# Altium schematic symbol library RF_GPS.SchLib: 23 symbols
Pins are listed as number, name and electrical type; pins without a type are passive.

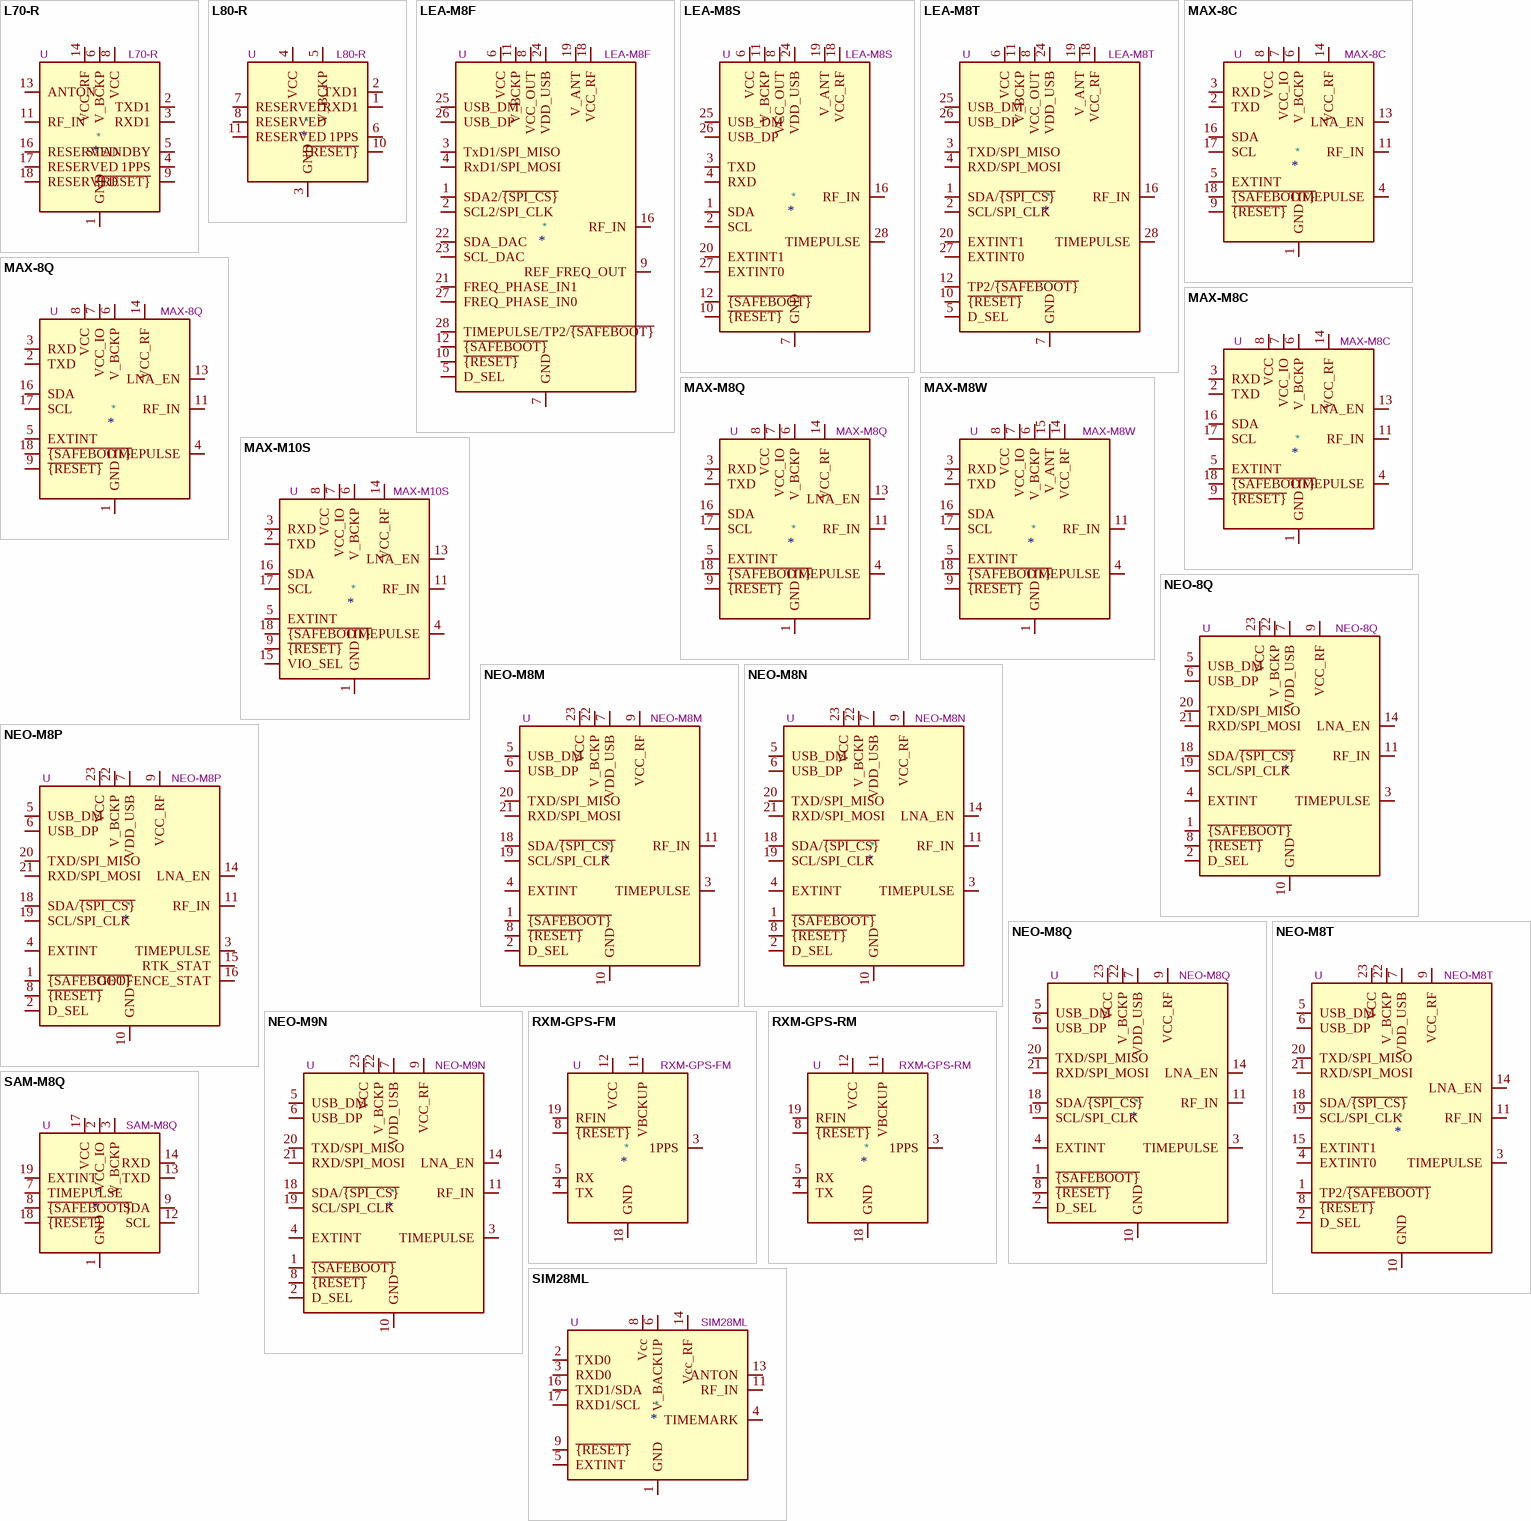
[diagram p0: symbols L70-R to SIM28ML]

## L70-R
designator *  value L70-R  Reference: U
ki_keywords: quectel GPS GNSS module; ki_description: Quectel GPS Module; ki_fp_filters: Quectel*L70*R*; Footprint: RF_GPS:Quectel_L70-R; Datasheet: https://www.quectel.com/product/gps-only-l70-r
pins: 1 GND, 2 TXD1, 3 RXD1, 4 1PPS, 5 STANDBY, 6 V_BCKP, 7 NC hidden, 8 VCC, 9 ~{{RESET}}, 10 GND hidden, 11 RF_IN, 12 GND hidden, 13 ANTON, 14 VCC_RF, 15 NC hidden, 16 RESERVED, 17 RESERVED, 18 RESERVED

## L80-R
designator *  value L80-R  Reference: U
ki_keywords: quectel GPS GNSS module; ki_description: Quectel GPS Module; ki_fp_filters: Quectel*L80*R*; Footprint: RF_GPS:Quectel_L80-R; Datasheet: https://www.quectel.com/UploadImage/Downlad/Quectel_L80-R_Hardware_Design_V1.2.pdf
pins: 1 RXD1, 2 TXD1, 3 GND, 4 VCC, 5 V_BCKP, 6 1PPS, 7 RESERVED, 8 RESERVED, 9 NC hidden, 10 ~{{RESET}}, 11 RESERVED, 12 GND hidden

## LEA-M8F
designator *  value LEA-M8F  Reference: U
ki_keywords: ublox GPS GNSS module; ki_description: GNSS Module LEA M8, VCC 3V to 3.6V; ki_fp_filters: ublox*LEA*; Footprint: RF_GPS:ublox_LEA; Datasheet: https://www.u-blox.com/sites/default/files/products/documents/LEA-M8F_DataSheet_%28UBX-14001772%29.pdf
pins: 1 SDA2/~{{SPI_CS}}, 2 SCL2/SPI_CLK, 3 TxD1/SPI_MISO, 4 RxD1/SPI_MOSI, 5 D_SEL, 6 VCC, 7 GND, 8 VCC_OUT, 9 REF_FREQ_OUT, 10 ~{{RESET}}, 11 V_BCKP, 12 ~{{SAFEBOOT}}, 13 GND hidden, 14 GND hidden, 15 GND hidden, 16 RF_IN, 17 GND hidden, 18 VCC_RF, 19 V_ANT, 20 RESERVED hidden, 21 FREQ_PHASE_IN1, 22 SDA_DAC, 23 SCL_DAC, 24 VDD_USB, 25 USB_DM, 26 USB_DP, 27 FREQ_PHASE_IN0, 28 TIMEPULSE/TP2/~{{SAFEBOOT}}

## LEA-M8S
designator *  value LEA-M8S  Reference: U
ki_keywords: ublox GPS GNSS module; ki_description: GNSS Module LEA M8, VCC 2.7V to 3.6V; ki_fp_filters: ublox*LEA*; Footprint: RF_GPS:ublox_LEA; Datasheet: https://www.u-blox.com/sites/default/files/LEA-M8S-FW3_DataSheet_%28UBX-16010205%29.pdf
pins: 1 SDA, 2 SCL, 3 TXD, 4 RXD, 5 RESERVED hidden, 6 VCC, 7 GND, 8 VCC_OUT, 9 RESERVED hidden, 10 ~{{RESET}}, 11 V_BCKP, 12 ~{{SAFEBOOT}}, 13 GND hidden, 14 GND hidden, 15 GND hidden, 16 RF_IN, 17 GND hidden, 18 VCC_RF, 19 V_ANT, 20 EXTINT1, 21 RESERVED hidden, 22 RESERVED hidden, 23 RESERVED hidden, 24 VDD_USB, 25 USB_DM, 26 USB_DP, 27 EXTINT0, 28 TIMEPULSE

## LEA-M8T
designator *  value LEA-M8T  Reference: U
ki_keywords: ublox GPS GNSS module; ki_description: GNSS Module LEA M8, VCC 2.7V to 3.6V; ki_fp_filters: ublox*LEA*; Footprint: RF_GPS:ublox_LEA; Datasheet: https://content.u-blox.com/sites/default/files/documents/NEO-LEA-M8T-FW3_DataSheet_UBX-15025193.pdf
pins: 1 SDA/~{{SPI_CS}}, 2 SCL/SPI_CLK, 3 TXD/SPI_MISO, 4 RXD/SPI_MOSI, 5 D_SEL, 6 VCC, 7 GND, 8 VCC_OUT, 9 RESERVED hidden, 10 ~{{RESET}}, 11 V_BCKP, 12 TP2/~{{SAFEBOOT}}, 13 GND hidden, 14 GND hidden, 15 GND hidden, 16 RF_IN, 17 GND hidden, 18 VCC_RF, 19 V_ANT, 20 EXTINT1, 21 RESERVED hidden, 22 RESERVED hidden, 23 RESERVED hidden, 24 VDD_USB, 25 USB_DM, 26 USB_DP, 27 EXTINT0, 28 TIMEPULSE

## MAX-8C
designator *  value MAX-8C  Reference: U
ki_keywords: ublox GPS GNSS module; ki_description: GNSS Module MAX M8, VCC 1.65V to 3.6V; ki_fp_filters: ublox*MAX*; Footprint: RF_GPS:ublox_MAX; Datasheet: https://www.u-blox.com/sites/default/files/MAX-8_DataSheet_%28UBX-16000093%29.pdf
pins: 1 GND, 2 TXD, 3 RXD, 4 TIMEPULSE, 5 EXTINT, 6 V_BCKP, 7 VCC_IO, 8 VCC, 9 ~{{RESET}}, 10 GND hidden, 11 RF_IN, 12 GND hidden, 13 LNA_EN, 14 VCC_RF, 15 Reserved hidden, 16 SDA, 17 SCL, 18 ~{{SAFEBOOT}}

## MAX-8Q
designator *  value MAX-8Q  Reference: U
ki_keywords: ublox GPS GNSS module; ki_description: GNSS Module M8, VCC 2.7V to 3.6V; ki_fp_filters: ublox*MAX*; Footprint: RF_GPS:ublox_MAX; Datasheet: https://www.u-blox.com/sites/default/files/MAX-8_DataSheet_%28UBX-16000093%29.pdf
pins: 1 GND, 2 TXD, 3 RXD, 4 TIMEPULSE, 5 EXTINT, 6 V_BCKP, 7 VCC_IO, 8 VCC, 9 ~{{RESET}}, 10 GND hidden, 11 RF_IN, 12 GND hidden, 13 LNA_EN, 14 VCC_RF, 15 Reserved hidden, 16 SDA, 17 SCL, 18 ~{{SAFEBOOT}}

## MAX-M8C
designator *  value MAX-M8C  Reference: U
ki_keywords: ublox GPS GNSS module; ki_description: GNSS Module MAX M8, VCC 1.65V to 3.6V; ki_fp_filters: ublox*MAX*; Footprint: RF_GPS:ublox_MAX; Datasheet: https://www.u-blox.com/sites/default/files/MAX-M8-FW3_DataSheet_%28UBX-15031506%29.pdf
pins: 1 GND, 2 TXD, 3 RXD, 4 TIMEPULSE, 5 EXTINT, 6 V_BCKP, 7 VCC_IO, 8 VCC, 9 ~{{RESET}}, 10 GND hidden, 11 RF_IN, 12 GND hidden, 13 LNA_EN, 14 VCC_RF, 15 Reserved hidden, 16 SDA, 17 SCL, 18 ~{{SAFEBOOT}}

## MAX-M8Q
designator *  value MAX-M8Q  Reference: U
ki_keywords: ublox GPS GNSS module; ki_description: GNSS Module MAX M8, VCC 2.7V to 3.6V; ki_fp_filters: ublox*MAX*; Footprint: RF_GPS:ublox_MAX; Datasheet: https://www.u-blox.com/sites/default/files/MAX-M8-FW3_DataSheet_%28UBX-15031506%29.pdf
pins: 1 GND, 2 TXD, 3 RXD, 4 TIMEPULSE, 5 EXTINT, 6 V_BCKP, 7 VCC_IO, 8 VCC, 9 ~{{RESET}}, 10 GND hidden, 11 RF_IN, 12 GND hidden, 13 LNA_EN, 14 VCC_RF, 15 Reserved hidden, 16 SDA, 17 SCL, 18 ~{{SAFEBOOT}}

## MAX-M8W
designator *  value MAX-M8W  Reference: U
ki_keywords: ublox GPS GNSS module; ki_description: GNSS Module MAX M8, VCC 2.7V to 3.6V; ki_fp_filters: ublox*MAX*; Footprint: RF_GPS:ublox_MAX; Datasheet: https://www.u-blox.com/sites/default/files/MAX-M8-FW3_DataSheet_%28UBX-15031506%29.pdf
pins: 1 GND, 2 TXD, 3 RXD, 4 TIMEPULSE, 5 EXTINT, 6 V_BCKP, 7 VCC_IO, 8 VCC, 9 ~{{RESET}}, 10 GND hidden, 11 RF_IN, 12 GND hidden, 13 Reserved hidden, 14 VCC_RF, 15 V_ANT, 16 SDA, 17 SCL, 18 ~{{SAFEBOOT}}

## MAX-M10S
designator *  value MAX-M10S  Reference: U
ki_keywords: ublox GPS GNSS module; ki_description: GNSS Module MAX M10, VCC 1.65V to 3.6V; ki_fp_filters: ublox?MAX*; Footprint: RF_GPS:ublox_MAX; Datasheet: https://content.u-blox.com/sites/default/files/MAX-M10S_DataSheet_UBX-20035208.pdf
pins: 1 GND, 2 TXD, 3 RXD, 4 TIMEPULSE, 5 EXTINT, 6 V_BCKP, 7 VCC_IO, 8 VCC, 9 ~{{RESET}}, 10 GND hidden, 11 RF_IN, 12 GND hidden, 13 LNA_EN, 14 VCC_RF, 15 VIO_SEL, 16 SDA, 17 SCL, 18 ~{{SAFEBOOT}}

## NEO-8Q
designator *  value NEO-8Q  Reference: U
ki_keywords: ublox GPS GNSS module; ki_description: GNSS Module NEO 8, VCC 1.65V to 3.6V; ki_fp_filters: ublox*NEO*; Footprint: RF_GPS:ublox_NEO; Datasheet: https://content.u-blox.com/sites/default/files/documents/NEO-8Q_DataSheet_UBX-15031913.pdf
pins: 1 ~{{SAFEBOOT}}, 2 D_SEL, 3 TIMEPULSE, 4 EXTINT, 5 USB_DM, 6 USB_DP, 7 VDD_USB, 8 ~{{RESET}}, 9 VCC_RF, 10 GND, 11 RF_IN, 12 GND hidden, 13 GND hidden, 14 LNA_EN, 15 RESERVED hidden, 16 RESERVED hidden, 17 RESERVED hidden, 18 SDA/~{{SPI_CS}}, 19 SCL/SPI_CLK, 20 TXD/SPI_MISO, 21 RXD/SPI_MOSI, 22 V_BCKP, 23 VCC, 24 GND hidden

## NEO-M8M
designator *  value NEO-M8M  Reference: U
ki_keywords: ublox GPS GNSS module; ki_description: GNSS Module NEO M8, VCC 2.7V to 3.6V; ki_fp_filters: ublox*NEO*; Footprint: RF_GPS:ublox_NEO; Datasheet: https://content.u-blox.com/sites/default/files/NEO-M8-FW3_DataSheet_UBX-15031086.pdf
pins: 1 ~{{SAFEBOOT}}, 2 D_SEL, 3 TIMEPULSE, 4 EXTINT, 5 USB_DM, 6 USB_DP, 7 VDD_USB, 8 ~{{RESET}}, 9 VCC_RF, 10 GND, 11 RF_IN, 12 GND hidden, 13 GND hidden, 14 RESERVED hidden, 15 RESERVED hidden, 16 RESERVED hidden, 17 RESERVED hidden, 18 SDA/~{{SPI_CS}}, 19 SCL/SPI_CLK, 20 TXD/SPI_MISO, 21 RXD/SPI_MOSI, 22 V_BCKP, 23 VCC, 24 GND hidden

## NEO-M8N
designator *  value NEO-M8N  Reference: U
ki_keywords: ublox GPS GNSS module; ki_description: GNSS Module NEO M8, VCC 2.7V to 3.6V; ki_fp_filters: ublox*NEO*; Footprint: RF_GPS:ublox_NEO; Datasheet: https://content.u-blox.com/sites/default/files/NEO-M8-FW3_DataSheet_UBX-15031086.pdf
pins: 1 ~{{SAFEBOOT}}, 2 D_SEL, 3 TIMEPULSE, 4 EXTINT, 5 USB_DM, 6 USB_DP, 7 VDD_USB, 8 ~{{RESET}}, 9 VCC_RF, 10 GND, 11 RF_IN, 12 GND hidden, 13 GND hidden, 14 LNA_EN, 15 RESERVED hidden, 16 RESERVED hidden, 17 RESERVED hidden, 18 SDA/~{{SPI_CS}}, 19 SCL/SPI_CLK, 20 TXD/SPI_MISO, 21 RXD/SPI_MOSI, 22 V_BCKP, 23 VCC, 24 GND hidden

## NEO-M8P
designator *  value NEO-M8P  Reference: U
ki_keywords: ublox GPS GNSS RTK module; ki_description: GNSS RTK Module NEO M8, VCC 2.7V to 3.6V; ki_fp_filters: ublox*NEO*; Footprint: RF_GPS:ublox_NEO; Datasheet: https://content.u-blox.com/sites/default/files/NEO-M8P_DataSheet_UBX-15016656.pdf
pins: 1 ~{{SAFEBOOT}}, 2 D_SEL, 3 TIMEPULSE, 4 EXTINT, 5 USB_DM, 6 USB_DP, 7 VDD_USB, 8 ~{{RESET}}, 9 VCC_RF, 10 GND, 11 RF_IN, 12 GND hidden, 13 GND hidden, 14 LNA_EN, 15 RTK_STAT, 16 GEOFENCE_STAT, 17 RESERVED hidden, 18 SDA/~{{SPI_CS}}, 19 SCL/SPI_CLK, 20 TXD/SPI_MISO, 21 RXD/SPI_MOSI, 22 V_BCKP, 23 VCC, 24 GND hidden

## NEO-M8Q
designator *  value NEO-M8Q  Reference: U
ki_keywords: ublox GPS GNSS module; ki_description: GNSS Module NEO M8, VCC 2.7V to 3.6V; ki_fp_filters: ublox*NEO*; Footprint: RF_GPS:ublox_NEO; Datasheet: https://content.u-blox.com/sites/default/files/NEO-M8-FW3_DataSheet_UBX-15031086.pdf
pins: 1 ~{{SAFEBOOT}}, 2 D_SEL, 3 TIMEPULSE, 4 EXTINT, 5 USB_DM, 6 USB_DP, 7 VDD_USB, 8 ~{{RESET}}, 9 VCC_RF, 10 GND, 11 RF_IN, 12 GND hidden, 13 GND hidden, 14 LNA_EN, 15 RESERVED hidden, 16 RESERVED hidden, 17 RESERVED hidden, 18 SDA/~{{SPI_CS}}, 19 SCL/SPI_CLK, 20 TXD/SPI_MISO, 21 RXD/SPI_MOSI, 22 V_BCKP, 23 VCC, 24 GND hidden

## NEO-M8T
designator *  value NEO-M8T  Reference: U
ki_keywords: ublox GPS GNSS module; ki_description: GNSS Module NEO M8, VCC 2.7V to 3.6V; ki_fp_filters: ublox*NEO*; Footprint: RF_GPS:ublox_NEO; Datasheet: https://content.u-blox.com/sites/default/files/documents/NEO-LEA-M8T-FW3_DataSheet_UBX-15025193.pdf
pins: 1 TP2/~{{SAFEBOOT}}, 2 D_SEL, 3 TIMEPULSE, 4 EXTINT0, 5 USB_DM, 6 USB_DP, 7 VDD_USB, 8 ~{{RESET}}, 9 VCC_RF, 10 GND, 11 RF_IN, 12 GND hidden, 13 GND hidden, 14 LNA_EN, 15 EXTINT1, 16 RESERVED hidden, 17 RESERVED hidden, 18 SDA/~{{SPI_CS}}, 19 SCL/SPI_CLK, 20 TXD/SPI_MISO, 21 RXD/SPI_MOSI, 22 V_BCKP, 23 VCC, 24 GND hidden

## NEO-M9N
designator *  value NEO-M9N  Reference: U
ki_keywords: ublox GPS GNSS module; ki_description: GNSS Module NEO M8, VCC 2.7V to 3.6V; ki_fp_filters: ublox*NEO*; Footprint: RF_GPS:ublox_NEO; Datasheet: https://www.u-blox.com/sites/default/files/NEO-M9N-00B_DataSheet_UBX-19014285.pdf
pins: 1 ~{{SAFEBOOT}}, 2 D_SEL, 3 TIMEPULSE, 4 EXTINT, 5 USB_DM, 6 USB_DP, 7 VDD_USB, 8 ~{{RESET}}, 9 VCC_RF, 10 GND, 11 RF_IN, 12 GND hidden, 13 GND hidden, 14 LNA_EN, 15 RESERVED hidden, 16 RESERVED hidden, 17 RESERVED hidden, 18 SDA/~{{SPI_CS}}, 19 SCL/SPI_CLK, 20 TXD/SPI_MISO, 21 RXD/SPI_MOSI, 22 V_BCKP, 23 VCC, 24 GND hidden

## RXM-GPS-FM
designator *  value RXM-GPS-FM  Reference: U
ki_keywords: gps low-power; ki_description: Module GPS Low Power, 14mA tracking, 22 channels; ki_fp_filters: Linx*RXM?GPS*; Footprint: RF_GPS:Linx_RXM-GPS; Datasheet: https://linxtechnologies.com/wp/wp-content/uploads/rxm-gps-fm.pdf
pins: 1 NC hidden, 2 NC hidden, 3 1PPS, 4 TX, 5 RX, 6 NC hidden, 7 NC hidden, 8 ~{{RESET}}, 9 NC hidden, 10 NC hidden, 11 VBCKUP, 12 VCC, 13 NC hidden, 14 NC hidden, 15 NC hidden, 16 NC hidden, 18 GND, 19 RFIN, 20 GND hidden, 21 GND hidden, 22 GND hidden

## RXM-GPS-RM
designator *  value RXM-GPS-RM  Reference: U
ki_keywords: gps low-power; ki_description: Module GPS Low Power, 14mA tracking, 22 channels; ki_fp_filters: Linx*RXM?GPS*; Footprint: RF_GPS:Linx_RXM-GPS; Datasheet: https://linxtechnologies.com/wp/wp-content/uploads/rxm-gps-rm.pdf
pins: 1 NC hidden, 2 NC hidden, 3 1PPS, 4 TX, 5 RX, 6 NC hidden, 7 NC hidden, 8 ~{{RESET}}, 9 NC hidden, 10 NC hidden, 11 VBCKUP, 12 VCC, 13 NC hidden, 14 NC hidden, 15 NC hidden, 16 NC hidden, 18 GND, 19 RFIN, 20 GND hidden, 21 GND hidden, 22 GND hidden

## SAM-M8Q
designator *  value SAM-M8Q  Reference: U
ki_keywords: gps module with antenna; ki_description: GPS ublox M8 variant; ki_fp_filters: ublox*SAM?M8Q*; Footprint: RF_GPS:ublox_SAM-M8Q; Datasheet: https://www.u-blox.com/sites/default/files/SAM-M8Q_DataSheet_%28UBX-16012619%29.pdf
pins: 1 GND, 2 VCC_IO, 3 V_BCKP, 4 GND hidden, 5 GND hidden, 6 GND hidden, 7 TIMEPULSE, 8 ~{{SAFEBOOT}}, 9 SDA, 10 GND hidden, 11 GND hidden, 12 SCL, 13 TXD, 14 RXD, 15 GND hidden, 16 GND hidden, 17 VCC, 18 ~{{RESET}}, 19 EXTINT, 20 GND hidden

## SIM28ML
designator *  value SIM28ML  Reference: U
ki_keywords: GPS A-GPS receiver; ki_description: Standalone GPS/A-GPS receiver module, built-in LNA, -165dBm sensitivity, 2.8-4.3V, SMD; ki_fp_filters: SIM28ML*; Footprint: RF_GPS:SIM28ML; Datasheet: https://simcom.ee/documents/SIM28ML/SIM28ML_Hardware%20Design_V1.01.pdf
pins: 1 GND, 2 TXD0, 3 RXD0, 4 TIMEMARK, 5 EXTINT, 6 V_BACKUP, 7 NC hidden, 8 Vcc, 9 ~{{RESET}}, 10 GND hidden, 11 RF_IN, 12 GND hidden, 13 ANTON, 14 Vcc_RF, 15 NC hidden, 16 TXD1/SDA, 17 RXD1/SCL, 18 NC hidden

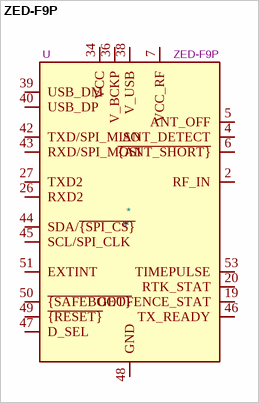
[diagram p1: symbol ZED-F9P]

## ZED-F9P
designator *  value ZED-F9P  Reference: U
ki_keywords: u-blox GNSS multi-band RTK; ki_description: GNSS Module ZED F9, VCC 2.7V to 3.6V, LGA-54; ki_fp_filters: ublox*ZED*; Footprint: RF_GPS:ublox_ZED; Datasheet: https://content.u-blox.com/sites/default/files/ZED-F9P-04B_DataSheet_UBX-21044850.pdf
pins: 1 GND hidden, 2 RF_IN, 3 GND hidden, 4 ANT_DETECT, 5 ANT_OFF, 6 ~{{ANT_SHORT}}, 7 VCC_RF, 8 Reserved hidden, 9 Reserved hidden, 10 Reserved hidden, 11 Reserved hidden, 12 GND hidden, 13 Reserved hidden, 14 GND hidden, 15 Reserved hidden, 16 Reserved hidden, 17 Reserved hidden, 18 Reserved hidden, 19 GEOFENCE_STAT, 20 RTK_STAT, 21 Reserved hidden, 22 Reserved hidden, 23 Reserved hidden, 24 Reserved hidden, 25 Reserved hidden, 26 RXD2, 27 TXD2, 28 Reserved hidden, 29 Reserved hidden, 30 Reserved hidden, 31 Reserved hidden, 32 GND hidden, 33 VCC hidden, 34 VCC, 35 Reserved hidden, 36 V_BCKP, 37 GND hidden, 38 V_USB, 39 USB_DM, 40 USB_DP, 41 GND hidden, 42 TXD/SPI_MISO, 43 RXD/SPI_MOSI, 44 SDA/~{{SPI_CS}}, 45 SCL/SPI_CLK, 46 TX_READY, 47 D_SEL, 48 GND, 49 ~{{RESET}}, 50 ~{{SAFEBOOT}}, 51 EXTINT, 52 Reserved hidden, 53 TIMEPULSE, 54 Reserved hidden, 55 GND hidden